# Altium footprint library RS2-708.PcbLib: 3 footprints
Each footprint in its own frame and in the unit in brackets; x right, y up, seen from the top. Pads: shape width x height; smd on the part's side, far side on the other; paste and mask are expansions set on the pad; w line width, h text height; cw(c..) or ccw(c..) is an arc to the next point about the centre after c.
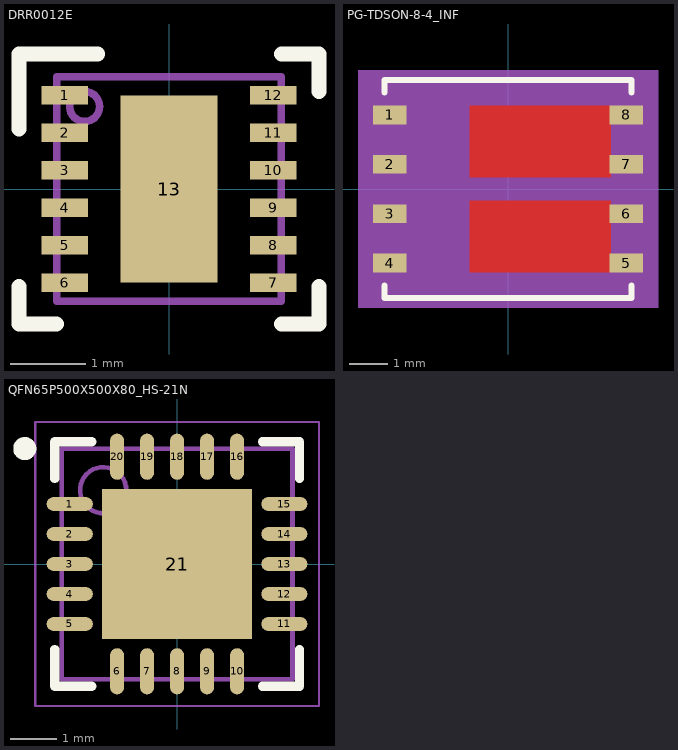
[diagram p0: the footprints below, top view; thin cyan lines are the x and y axes]

## DRR0012E [mm]
pads (13):
  rect 0.62x0.25 smd paste+0 mask+0.051: 1(-1.39,1.25) 2(-1.39,0.75) 3(-1.39,0.25) 4(-1.39,-0.25) 5(-1.39,-0.75) 6(-1.39,-1.25) 7(1.39,-1.25) 8(1.39,-0.75) 9(1.39,-0.25) 10(1.39,0.25) 11(1.39,0.75) 12(1.39,1.25)
  rect 1.3x2.5 smd paste-1.237 mask+0.051: 13(0,0)
Top Overlay:
  lines w0.2: -2,-1.3 -2,-1.8 -1.5,-1.8 ; -2,0.8 -2,1.8 -0.95,1.8 ; 1.5,-1.8 2,-1.8 2,-1.3 ; 1.5,1.8 2,1.8 2,1.3
Top Paste:
  region: -0.555,0.1 -0.605,0.15 -0.605,1.15 -0.555,1.2 0.555,1.2 0.605,1.15 0.605,0.15 0.555,0.1
  region: 0.555,-0.1 0.605,-0.15 0.605,-1.15 0.555,-1.2 -0.555,-1.2 -0.605,-1.15 -0.605,-0.15 -0.555,-0.1
Mechanical 13:
  circle w0.1: c-1.125,1.1 r0.2
  lines w0.1: -1.5,-1.5 1.5,-1.5 1.5,1.5 -1.5,1.5 -1.5,-1.5
  text ".Designator" at -1.575,-1.26 h1.27
3D body: height 0.25, standoff 0, extent 0,0 0.254,0.254
3D body "DRR0012E.stp": height 0.8, standoff 0, extent -1.5,-1.5 1.5,1.5

## PG-TDSON-8-4_INF [mil]
pads (8):
  rect 34x19 smd paste+0 mask+0: 1(-120,75) 2(-120,25) 3(-120,-25) 4(-120,-75) 5(120,-75) 6(120,-25) 7(120,25) 8(120,75)
Top Layer:
  region: 104,-12 104,-84.5 -39,-84.5 -39,-12
  region: 104,12 104,84.5 -39,84.5 -39,12
Top Overlay:
  lines w6: -125,-97.6 -125,-110.5 125,-110.5 125,-97.6 ; -125,97.6 -125,110.5 125,110.5 125,97.6
Top Paste:
  region: 104,-12 104,-84.5 -39,-84.5 -39,-12
  region: 104,12 104,84.5 -39,84.5 -39,12
Top Solder:
  region: 104,-12 104,-84.5 -39,-84.5 -39,-12
  region: 104,12 104,84.5 -39,84.5 -39,12
Mechanical 5:
  region: 152,-120.5 -152,-120.5 -152,120.5 152,120.5
Mechanical 13:
  lines w0: -12,105.5 ccw(c0,105.5) 12,105.5
  lines w1: -120,-105.5 -120,105.5 120,105.5 120,-105.5 -120,-105.5
Mechanical 15:
  region: -130,-102 -147,-102 -147,102 -130,102 -130,115.5 130,115.5 130,102 147,102 147,-102 130,-102 130,-115.5 -130,-115.5
  lines w6: -147,-102 -130,-102 -130,-115.5 130,-115.5 130,-102 147,-102 147,102 130,102 130,115.5 -130,115.5 -130,102 -147,102 -147,-102
3D body "PG-TDSON-8-4_INF.step": height 39.09, standoff 0, extent -125,-105.51 125,105.51

## QFN65P500X500X80_HS-21N [mm] "QFN, 20-Leads, Body 5.00x5.00mm, Pitch 0.65mm, Thermal Pad 3.25x3.25mm, IPC Medium Density"
height 0.8
pads (21):
  oval 1x0.3 smd: 1(-2.325,1.3) 2(-2.325,0.65) 3(-2.325,0) 4(-2.325,-0.65) 5(-2.325,-1.3) 11(2.325,-1.3) 12(2.325,-0.65) 13(2.325,0) 14(2.325,0.65) 15(2.325,1.3)
  oval 0.3x1 smd: 6(-1.3,-2.325) 7(-0.65,-2.325) 8(0,-2.325) 9(0.65,-2.325) 10(1.3,-2.325) 16(1.3,2.325) 17(0.65,2.325) 18(0,2.325) 19(-0.65,2.325) 20(-1.3,2.325)
  rect 3.25x3.25 smd: 21(0,0)
Top Overlay:
  circle w0.25: c-3.3,2.5 r0.125
  lines w0.2: -2.65,-1.85 -2.65,-2.65 -1.85,-2.65 ; -2.65,1.85 -2.65,2.65 -1.85,2.65 ; 1.85,-2.65 2.65,-2.65 2.65,-1.85 ; 1.85,2.65 2.65,2.65 2.65,1.85
Mechanical 13:
  circle w0.1: c-1.6,1.6 r0.5
  lines w0.1: -2.5,-2.5 2.5,-2.5 2.5,2.5 -2.5,2.5 -2.5,-2.5
Mechanical 15:
  lines w0.05: -3.075,-3.075 3.075,-3.075 3.075,3.075 -3.075,3.075 -3.075,-3.075
  lines w0.1: -0.5,0 0.5,0 ; 0,-0.5 0,0.5
3D body "QFN65P500X500X80_HS-21N.step": height 0.8, standoff 0, extent -2.53,-2.53 2.53,2.53